# Altium integrated library 12.5X25.IntLib: 1 symbol
Pins are listed as number, name and electrical type; pins without a type are passive.

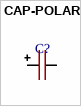
[diagram p0: symbol CAP-POLAR]

## CAP-POLAR
designator C?
footprint CAPPOL-12x25
pins: 1 +, 2 -